# Altium schematic symbol library Aimtec.SchLib: 1 symbol
Pins are listed as number, name and electrical type; pins without a type are passive.

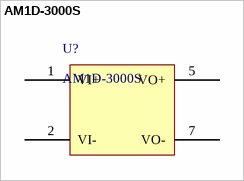
[diagram p0: symbol AM1D-3000S]

## AM1D-3000S
designator U?
Value: AM1D-3000S
pins: 1 VI+, 2 VI-, 5 VO+, 7 VO-